# EAGLE library part LM555CMX_NOPB (library SamacSys_Parts)
Highly stable 555 timer for generating accurate time delays and oscillation Source: Datasheet <http://www.ti.com/lit/ds/symlink/lm555.pdf>
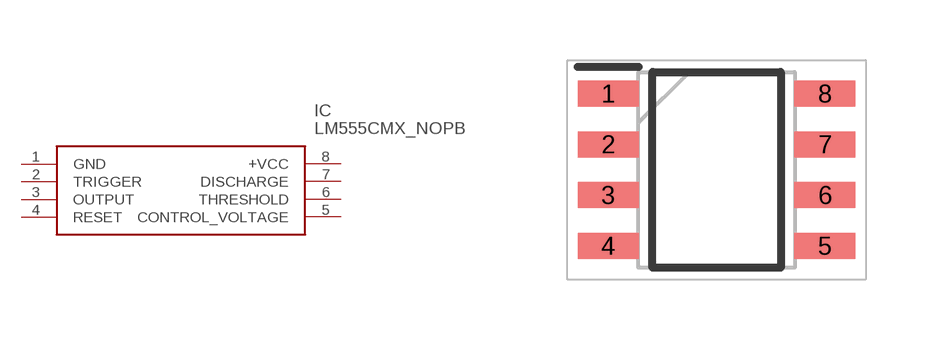
[diagram p1: symbol with the pads of SOIC127P600X175-8N; footprint SOIC127P600X175-8N]

Designator prefix IC

## LM555CMX_NOPB (DESCRIPTION: Highly stable 555 timer for generating accurate time delays and oscillation; HEIGHT: 1.75mm; MANUFACTURER_NAME: Texas Instruments; MANUFACTURER_PART_NUMBER: LM555CMX/NOPB; MOUSER_PART_NUMBER: 926-LM555CMX/NOPB; MOUSER_PRICE-STOCK: https://www.mouser.co.uk/ProductDetail/Texas-Instruments/LM555CMX-NOPB?qs=QbsRYf82W3GHnQuoL%2FmIoA%3D%3D)  [SOIC127P600X175-8N]
1  GND  pwr
2  TRIGGER
3  OUTPUT  out
4  RESET
5  CONTROL_VOLTAGE
6  THRESHOLD
7  DISCHARGE
8  +VCC  pwr

## Footprint SOIC127P600X175-8N (pad centres in mm)
D (R-PDSO-G8)
smd 1.525 x 0.65: 1 -2.712,1.905; 2 -2.712,0.635; 3 -2.712,-0.635; 4 -2.712,-1.905; 5 2.712,-1.905; 6 2.712,-0.635; 7 2.712,0.635; 8 2.712,1.905